# Altium footprint library NGB TP.PcbLib: 1 footprints
Each footprint in its own frame and in the unit in brackets; x right, y up, seen from the top. Pads: shape width x height; smd on the part's side, far side on the other; paste and mask are expansions set on the pad; w line width, h text height; cw(c..) or ccw(c..) is an arc to the next point about the centre after c.
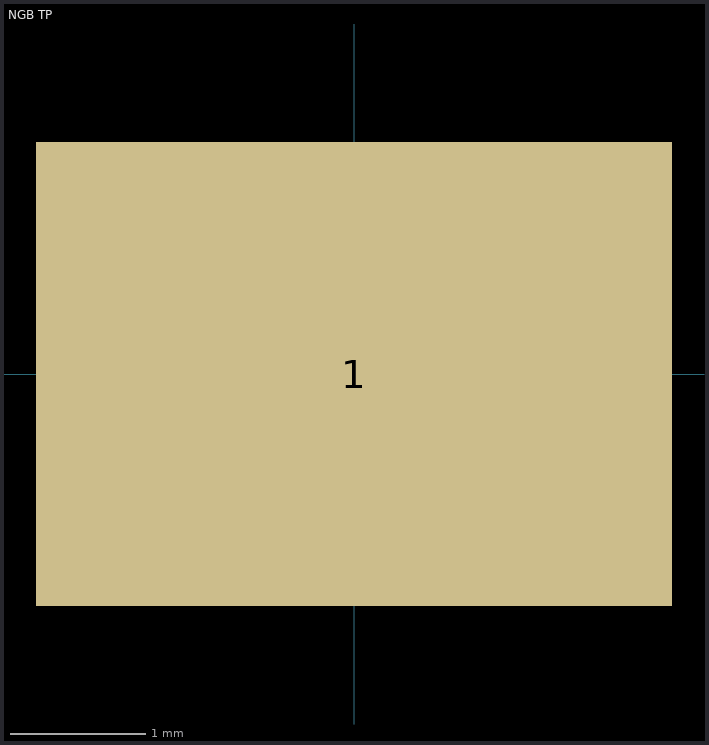
[diagram p0: the footprint, top view; thin cyan lines are the x and y axes]

## NGB TP [mil]
height 90
pads (1):
  rect 185x135 smd: 1(0,0)
3D body: height 90.55, standoff 0, extent -72.65,-53.97 76.96,56.26